# EAGLE library part TEN_3--* (library traco-electronic)
DC/DC Konverter 3 Watt, 2 x Input, 2 x Output Source: http://www.tracopower.com/datasheet_g/ten3-d.pdf
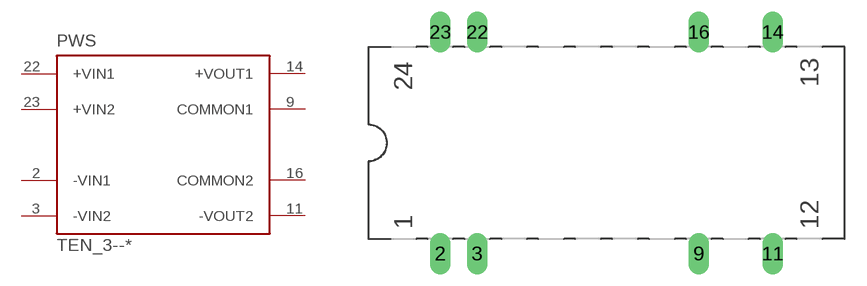
[diagram p0: symbol with the pads of TEN3XXXX; footprint TEN3XXXX]

Designator prefix PWS

## TEN_3--0521 (OC_FARNELL: unknown; OC_NEWARK: unknown), TEN_3--0522 (MPN: TEN 3-0522; OC_FARNELL: unknown; OC_NEWARK: 91R2128), TEN_3--0523 (OC_FARNELL: unknown; OC_NEWARK: unknown), TEN_3--122 (OC_FARNELL: unknown; OC_NEWARK: unknown), TEN_3--1221 (MPN: TEN31221; OC_FARNELL: unknown; OC_NEWARK: 60R5780), TEN_3--1223 (OC_FARNELL: unknown; OC_NEWARK: unknown), TEN_3--2421 (OC_FARNELL: unknown; OC_NEWARK: unknown), TEN_3--2422 (MPN: TEN 3-2422WI; OC_FARNELL: unknown; OC_NEWARK: 78R5872), TEN_3--2423 (MPN: TEN3-2423; OC_FARNELL: unknown; OC_NEWARK: 72J5373), TEN_3--4821 (OC_FARNELL: unknown; OC_NEWARK: unknown), TEN_3--4822 (OC_FARNELL: unknown; OC_NEWARK: unknown), TEN_3--4823 (OC_FARNELL: unknown; OC_NEWARK: unknown)  [TEN3XXXX]
2  -VIN1  in
3  -VIN2  in
9  COMMON1  pas
11  -VOUT2  pas
14  +VOUT1  pas
16  COMMON2  pas
22  +VIN1  in
23  +VIN2  in

## Footprint TEN3XXXX (pad centres in mm)
DC/DC Konverter 3 Watt Source: http://www.tracopower.com/datasheet_g/ten3-d.pdf
drill 0.813 pad 1.422 long: 2 -11.43,-7.62; 3 -8.89,-7.62; 9 6.35,-7.62; 11 11.43,-7.62; 14 11.43,7.62; 16 6.35,7.62; 22 -8.89,7.62; 23 -11.43,7.62